# Altium footprint library CE_D_6X5MM.PcbLib: 1 footprints
Each footprint in its own frame and in the unit in brackets; x right, y up, seen from the top. Pads: shape width x height; smd on the part's side, far side on the other; paste and mask are expansions set on the pad; w line width, h text height; cw(c..) or ccw(c..) is an arc to the next point about the centre after c.
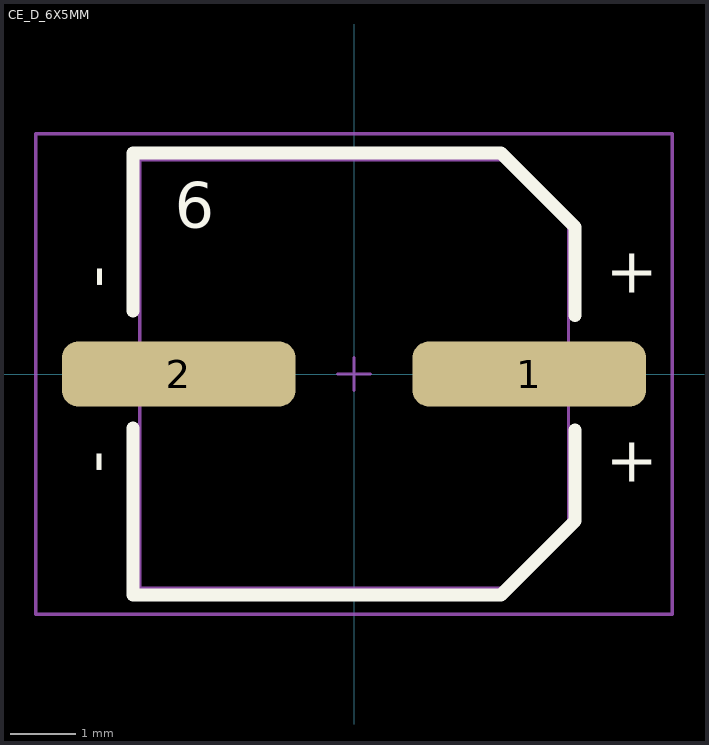
[diagram p0: the footprint, top view; thin cyan lines are the x and y axes]

## CE_D_6X5MM [mm]
pads (2):
  rrect50% 3.6x1 smd: 1(2.7,0) 2(-2.7,0)
Top Overlay:
  lines w0.2: -3.4,-0.83 -3.404,-3.404 2.267,-3.4 3.4,-2.267 3.4,-0.86 ; -3.4,0.97 -3.4,3.4 2.267,3.4 3.4,2.267 3.4,0.9
  text "6" at -2.76,2.25 h0.7
  text "+" at 3.88,1.25 h0.7
  text "+" at 3.88,-1.66 h0.7
  text "-" at -3.65,1.32 h0.7
  text "-" at -3.66,-1.53 h0.7
Top Assembly:
  lines w0.05: -3.298,-3.3 -3.298,3.3 2.415,3.3 3.302,2.413 3.302,-2.413 2.415,-3.3 -3.298,-3.3
Top Courtyard:
  lines w0.05: -0.254,0 0.254,0 ; 0,-0.254 0,0.254 ; -4.9,-3.7 -4.9,3.7 4.9,3.7 4.9,-3.7 -4.9,-3.7
3D body "Cap, elec, 6.3x4.2.STEP": height 4.23, standoff 0, extent -3.298,-3.3 3.301,3.3